# Altium schematic symbol library 74LVC1T45-SOT363.SchLib: 1 symbol
Pins are listed as number, name and electrical type; pins without a type are passive.

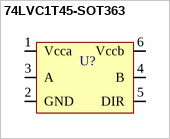
[diagram p0: symbol 74LVC1T45-SOT363]

## 74LVC1T45-SOT363
designator U?  (value not drawn)
pins: 1 Vcca, 2 GND, 3 A, 4 B, 5 DIR, 6 Vccb